# Altium footprint library rest.PCBLIB: 42 footprints (part 3 of 3)
Each footprint in its own frame and in the unit in brackets; x right, y up, seen from the top. Pads: shape width x height; smd on the part's side, far side on the other; paste and mask are expansions set on the pad; w line width, h text height; cw(c..) or ccw(c..) is an arc to the next point about the centre after c.
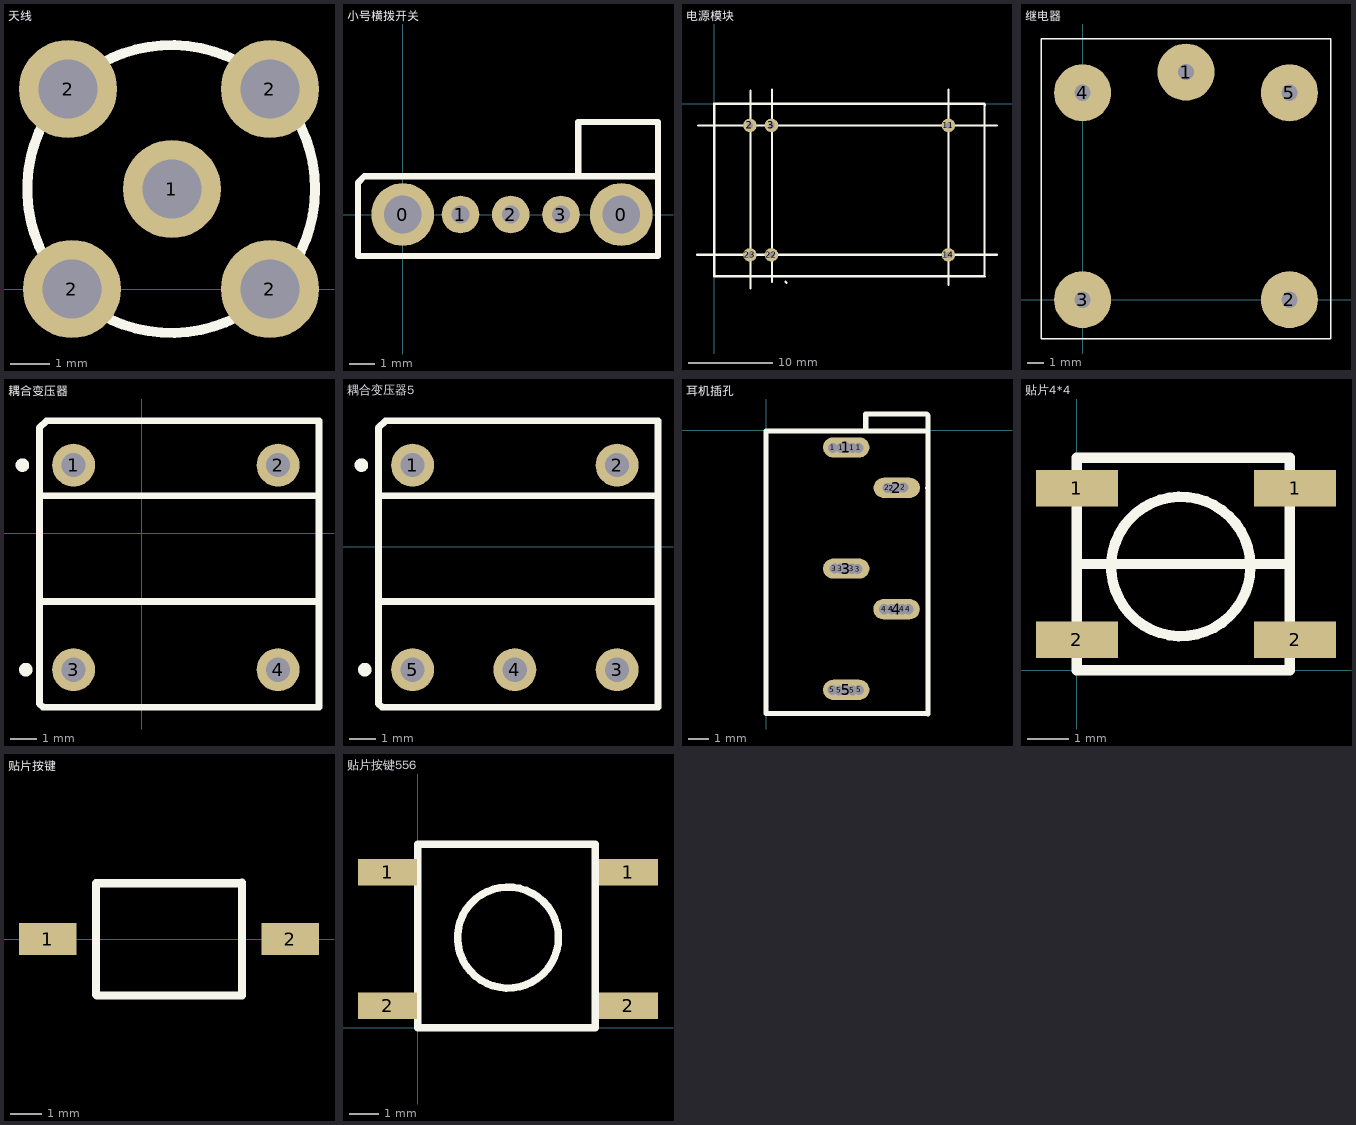
[diagram p2: the footprints below, top view; thin cyan lines are the x and y axes]

## 天线 [mm]
pads (5):
  round 2.5 hole 1.5: 1(5.1,2.55) 2(2.45,5.1) 2(2.55,0) 2(7.6,0) 2(7.6,5.1)
TopOverlay:
  circle w0.254: c5.08,2.55 r3.67

## 小号横拨开关 [mm]
pads (5):
  round 2.5 hole 1.5: 0(0,0) 0(8.7,0)
  round 1.5 hole 0.7: 1(2.3,0) 2(4.3,0) 3(6.3,0)
TopOverlay:
  lines w0.254: 6.985,1.524 6.985,3.683 10.16,3.683 10.16,3.048 10.16,1.524 ; 10.16,1.524 -1.524,1.524 -1.778,1.27 -1.778,-1.397 -1.778,-1.651 10.16,-1.651 10.16,-1.397 10.16,1.524

## 电源模块 [mm]
pads (6):
  round 1.6 hole 0.7: 2(4.191,-2.54) 3(6.731,-2.54) 11(27.559,-2.54) 14(27.559,-17.78) 22(6.731,-17.78) 23(4.191,-17.78)
TopOverlay:
  lines w0.254: -2.032,-17.78 33.274,-17.78 ; -1.905,-2.54 33.274,-2.54 ; 4.25,-21.717 4.25,1.524 ; 6.79,-20.955 6.79,1.651 ; 8.382,-20.955 8.509,-21.082 ; 27.55,-21.336 27.55,1.651 ; 31.8,-20.32 31.8,-0.177 ; 31.877,-20.32 31.603,-20.3 0,-20.3 0,0 31.8,0 31.877,-0.177

## 继电器 [mm]
pads (5):
  round 3.5 hole 1: 1(6.35,13.97) 2(12.7,0) 3(0,0) 4(0,12.7) 5(12.7,12.7)
TopOverlay:
  lines w0.08: -2.54,-2.413 -2.54,16.002 15.24,16.002 15.24,-2.413 -2.54,-2.413

## 耦合变压器 [mm]
pads (4):
  round 1.6 hole 0.9: 1(-2.54,2.54) 2(5.08,2.54) 3(-2.54,-5.08) 4(5.08,-5.08)
TopOverlay:
  circle w0.254: c-4.445,2.54 r0.127
  circle w0.254: c-4.318,-5.08 r0.127
  lines w0.254: -3.81,-2.54 6.604,-2.54 ; -3.81,1.397 6.604,1.397 ; -3.81,-6.35 -3.683,-6.477 6.604,-6.477 6.604,4.191 -3.556,4.191 -3.81,3.937 -3.81,-6.35

## 耦合变压器5 [mm]
pads (5):
  round 1.6 hole 0.9: 1(-25.146,3.048) 2(-17.526,3.048) 3(-17.526,-4.572) 4(-21.336,-4.572) 5(-25.146,-4.572)
TopOverlay:
  circle w0.254: c-27.051,3.048 r0.127
  circle w0.254: c-26.924,-4.572 r0.127
  lines w0.254: -26.416,-2.032 -16.002,-2.032 ; -26.416,1.905 -16.002,1.905 ; -26.416,-5.842 -26.289,-5.969 -16.002,-5.969 -16.002,4.699 -26.162,4.699 -26.416,4.445 -26.416,-5.842

## 耳机插孔 [mm]
pads (26):
  round 0.5 hole 0.5: 1(3.302,-0.864) 1(3.708,-0.864) 1(4.267,-0.864) 1(4.572,-0.864) 2(5.994,-2.845) 2(6.223,-2.87) 2(6.223,-2.87) 2(6.782,-2.819) 3(3.378,-6.833) 3(3.658,-6.833) 3(4.242,-6.838) 3(4.521,-6.858) 4(5.842,-8.839) 4(6.198,-8.839) 4(6.198,-8.839) 4(6.731,-8.839) 4(7.036,-8.839) 5(3.277,-12.827) 5(3.607,-12.852) 5(4.267,-12.852) 5(4.597,-12.827)
  oval 2.3x1 hole 0.5: 1(3.962,-0.838) 2(6.462,-2.838) 3(3.962,-6.833) 4(6.452,-8.839) 5(3.962,-12.827)
TopOverlay:
  lines w0.254: 4.928,-0.025 4.928,0.813 7.925,0.813 8,0.738 8,-0.229 ; 7.993,-2.838 8,-2.845 ; 7.999,-8.838 8,-8.839 ; 0,-14 0,-0.025 8,-0.025 8,-14.02 8.001,-14.021 7.98,-14 0,-14

## 贴片4*4 [mm]
pads (4):
  rect 2x0.9 smd: 1(0,4.45) 1(5.334,4.45) 2(0,0.75) 2(5.334,0.75)
TopOverlay:
  circle w0.254: c2.54,2.54 r1.704
  lines w0.254: 0,2.6 5.14,2.6 5.2,2.54 ; 0,0 0,5.2 5.2,5.2 5.2,0 0,0

## 贴片按键 [mm]
pads (2):
  rect 1.8x1 smd: 1(4.445,0) 2(12.065,0)
TopOverlay:
  lines w0.254: 5.969,-1.75 5.997,-1.778 10.541,-1.778 10.541,1.778 10.513,1.75 5.969,1.75 5.969,0 5.969,-1.75

## 贴片按键556 [mm]
pads (4):
  rect 2x0.9 smd: 1(-1.016,5.25) 1(7.112,5.25) 2(-1.016,0.75) 2(7.112,0.75)
TopOverlay:
  circle w0.254: c3.048,3.048 r1.704
  lines w0.254: 0,0 6,0 6,6.2 0,6.2 0,0